# EAGLE library part MICRO_SD (library m_connector)
Card Connector microSD Added 11/19/2012, 3M TS-2197-02
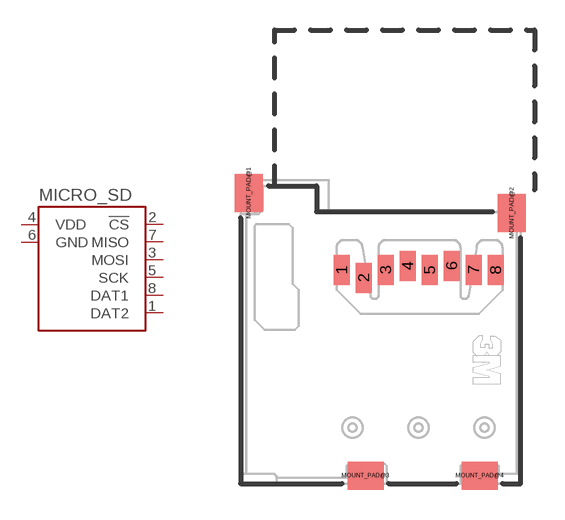
[diagram p7: symbol with the pads of 3M_2900_MICROSD; footprint 3M_2900_MICROSD]

Designator prefix MICRO_SD

## MICRO_SD3M_2900 (MANUF: 3M; PARTNUM: 29-08-05WB-MG)  [3M_2900_MICROSD]
1  DAT2  pas
2  !CS  pas
3  MOSI  pas
4  VDD  pas
5  SCK  pas
6  GND  pas
7  MISO  pas
8  DAT1  pas

## Footprint 3M_2900_MICROSD (pad centres in mm)
3M Card Connector microSD Part Number 29-08-05WB-MG Added 11/19/2012, 3M TS-2197-02
smd 0.8 x 1.5: 1 -1.64,3; 2 -0.54,2.6; 3 0.56,3; 4 1.66,3.2; 5 2.76,3; 6 3.86,3.2; 7 4.96,3; 8 6.06,3
smd 1.4 x 1.9: MOUNT_PAD@1 -6.3,6.85; MOUNT_PAD@2 6.85,5.85
smd 1.8 x 1.4: MOUNT_PAD@3 -0.45,-7.3; MOUNT_PAD@4 5.25,-7.3